# Altium footprint library S04B-PASK-2.PcbLib: 1 footprints
Each footprint in its own frame and in the unit in brackets; x right, y up, seen from the top. Pads: shape width x height; smd on the part's side, far side on the other; paste and mask are expansions set on the pad; w line width, h text height; cw(c..) or ccw(c..) is an arc to the next point about the centre after c.
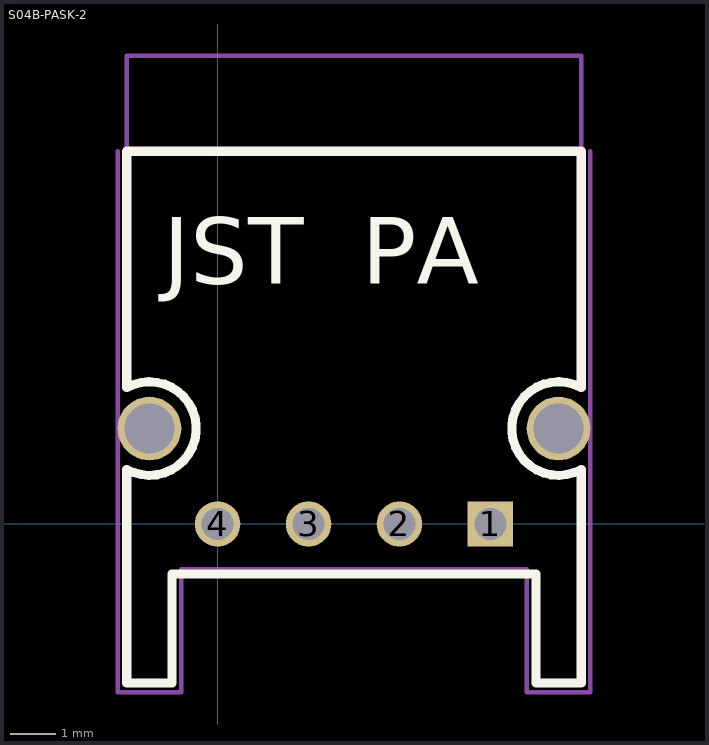
[diagram p0: the footprint, top view; thin cyan lines are the x and y axes]

## S04B-PASK-2 [mm] "JST (JAPAN SOLDERLESS TERMINALS) - S04B-PASK-2 - HEADER, PA, 4WAY, SIDE, 2MM"
height 7
pads (6):
  rect 1x1 hole 0.7: 1(6,0)
  round 1 hole 0.7: 2(4,0) 3(2,0) 4(0,0)
  round 1.4 hole 1.1: ""(-1.5,2.1) ""(7.5,2.1)
Top Overlay:
  lines w0.2: -2,-3.5 -1,-3.5 -1,-1.1 5.15,-1.1 7,-1.1 7,-3.5 8,-3.5 8,1.2 cw(c7.5,2.1) 8,3 8,8.2 -2,8.2 -2,3 cw(c-1.5,2.1) -2,1.2 -2,-3.5
  text "JST  PA" at -1.2,4.8 h2.5
Mechanical 15:
  lines w0.1: -2.2,8.2 -2.2,-3.7 -0.8,-3.7 -0.8,-1 6.8,-1 6.8,-3.7 8.2,-3.7 8.2,8.2 ; -2,8.2 -2,10.3 8,10.3 8,8.2
3D body: height 6.5, standoff -3.4, extent -2,-3.5 8,8.2